# Altium schematic symbol library REED_SWITCH.Schlib: 1 symbol
Pins are listed as number, name and electrical type; pins without a type are passive.

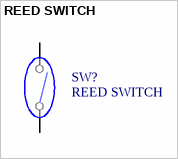
[diagram p0: symbol REED SWITCH]

## REED SWITCH
designator SW?
pins: 1 NA, 2 C